# Altium schematic symbol library N_MOS-DOW9N03.SchLib: 1 symbol
Pins are listed as number, name and electrical type; pins without a type are passive.

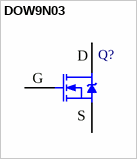
[diagram p0: symbol DOW9N03]

## DOW9N03
designator Q?
pins: 1 G, 2 S, 3 D